# EAGLE library part ACSL-6400 (library 3DRobotics_Master_Library)
ACSL-6400 15 MBd Digital Logic Gate Optocoupler Diky-Key part: 516-1603-5-ND
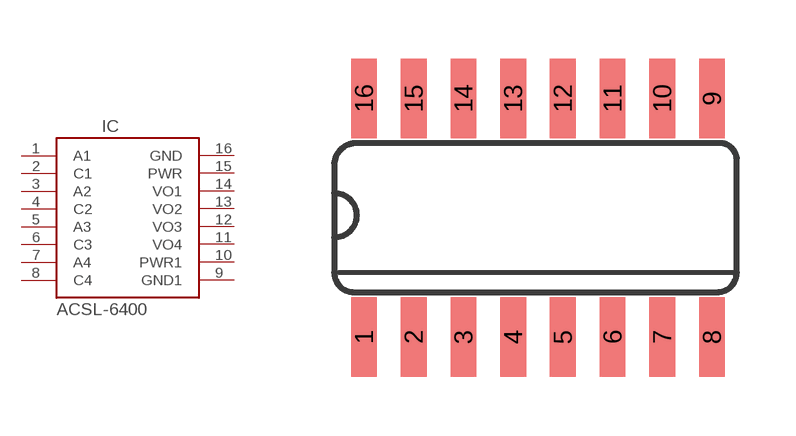
[diagram p0: symbol with the pads of SOIC16; footprint SOIC16]

Designator prefix IC

## ACSL-6400 (DATASHEET: http://www.avagotech.com/docs/AV02-0235EN; LINK: http://search.digikey.com/scripts/DkSearch/dksus.dll?WT.z_header=search_go&lang=en&site=us&keywords=516-1603-5-ND&x=0&y=0; MFGPN: ACSL-6400-00TE; PN: 516-1603-5-ND)  [SOIC16]
1  A1  in
2  C1  out
3  A2  in
4  C2  out
5  A3  in
6  C3  out
7  A4  in
8  C4  out
9  GND1  pwr
10  PWR1  pwr
11  VO4  out
12  VO3  out
13  VO2  out
14  VO1  out
15  PWR  pwr
16  GND  pwr

## Footprint SOIC16 (pad centres in mm)
smd 0.66 x 2.032: 1 -4.445,-3.048; 2 -3.175,-3.048; 3 -1.905,-3.048; 4 -0.635,-3.048; 5 0.635,-3.048; 6 1.905,-3.048; 7 3.175,-3.048; 8 4.445,-3.048; 9 4.445,3.048; 10 3.175,3.048; 11 1.905,3.048; 12 0.635,3.048; 13 -0.635,3.048; 14 -1.905,3.048; 15 -3.175,3.048; 16 -4.445,3.048